# Altium schematic symbol library Schlib1.SchLib: 18 symbols
Pins are listed as number, name and electrical type; pins without a type are passive.

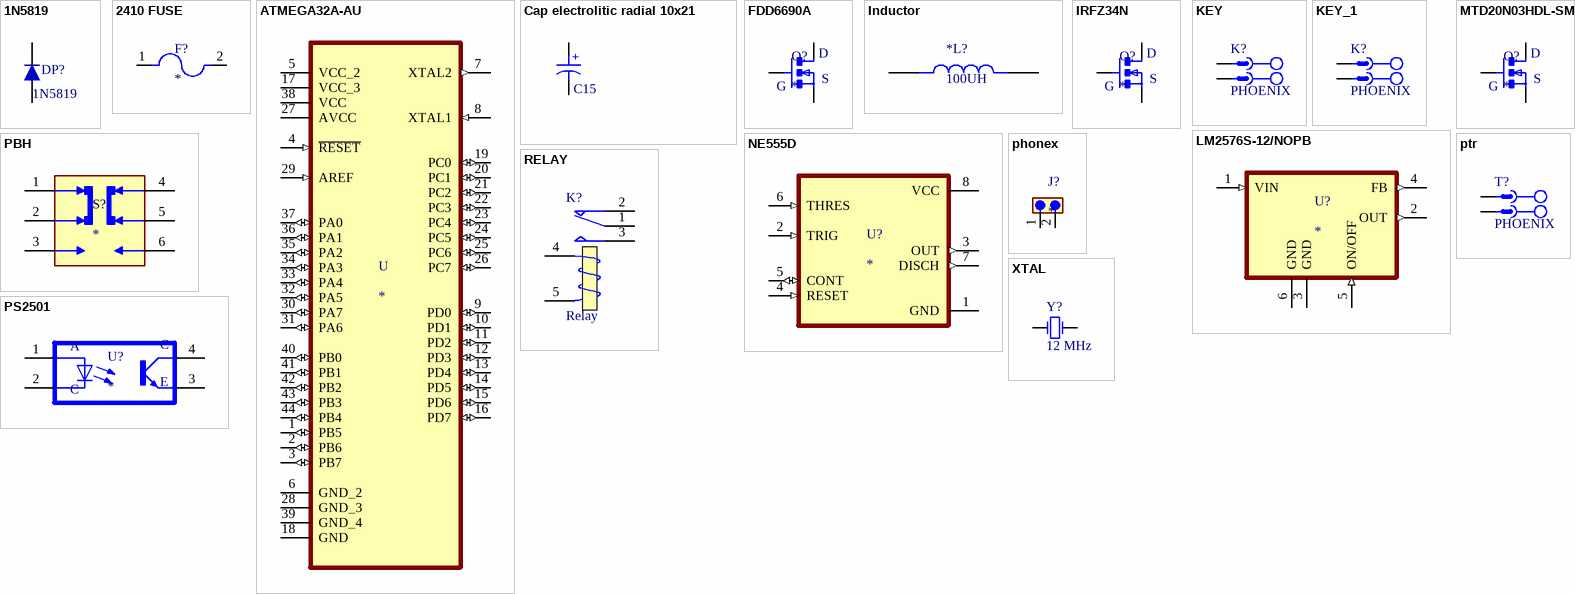
[diagram p0: symbols 1N5819 to XTAL]

## 1N5819
designator DP?
Schottkey Rectifiers; Designer: Abbas Basereh; Data: 16-12-2016; Link: *; Part. No: *
footprint 1N5819 (DP?)
pins: 1, 2

## 2410 FUSE
designator F?
2410 SMT Fuse | Quick Acting | 250mA | Higher AC Voltage; MP: 0679L4000-05; Package: None; Price: None; Value: *; Availability: Unavailable
footprint 2410 FUSE (F?)
pins: 1, 2

## ATMEGA32A-AU
designator U
AVR; MF: Microchip; MP: ATMEGA32A-AU; Value: *; Price: None; Package: TQFP-44 Microchip; SnapEDA_Link: https://www.snapeda.com/parts/ATMEGA32A-AU/Microchip/view-part/666512/?ref=snap; Availability: Unavailable
footprint ATMEGA32A-AU avr
pins: 1 PB5 (io), 2 PB6 (io), 3 PB7 (io), 4 ~{RESET} (in), 5 VCC_2 (power), 6 GND_2, 7 XTAL2 (out), 8 XTAL1 (in), 9 PD0 (io), 10 PD1 (io), 11 PD2 (io), 12 PD3 (io), 13 PD4 (io), 14 PD5 (io), 15 PD6 (io), 16 PD7 (io), 17 VCC_3 (power), 18 GND, 19 PC0 (io), 20 PC1 (io), 21 PC2 (io), 22 PC3 (io), 23 PC4 (io), 24 PC5 (io), 25 PC6 (io), 26 PC7 (io), 27 AVCC (power), 28 GND_3, 29 AREF (in), 30 PA7 (io), 31 PA6 (io), 32 PA5 (io), 33 PA4 (io), 34 PA3 (io), 35 PA2 (io), 36 PA1 (io), 37 PA0 (io), 38 VCC (power), 39 GND_4, 40 PB0 (io), 41 PB1 (io), 42 PB2 (io), 43 PB3 (io), 44 PB4 (io)

## Cap electrolitic radial 10x21
designator C15, comment Cap 10x21  (value not drawn)
Cap electrolitic radial; Part. No: 100U/50V; Designer: Abbas Basereh; Data: 16-12-2016
footprint Cap electrolitic radial 10x20-5 (Cap electrolitic radial 10x20-5-Design:Abbas Basereh)
pins: 1, 2
1 alternate drawing of the same symbol
text: +

## FDD6690A
designator Q?
N-Channel 55V 29A (Tc) 3.8W (Ta), 68W (Tc) Surface Mount D2PAK; MP: IRFZ34N; MF: Infineon / IR; Price: None; Value: *; Package: TO-220-3 Infineon / IR; SnapEDA_Link: https://www.snapeda.com/parts/IRFZ34N/Infineon/view-part/4702946/?ref=snap; Check_prices: https://www.snapeda.com/parts/IRFZ34N/Infineon/view-part/4702946/?ref=eda; Availability: Bad
footprint FDD6690A (Q?)
pins: 1 G, 2 D, 3 S

## Inductor
designator *L?, comment 100UH
footprint power inductor
pins: 1, 2

## IRFZ34N
designator Q?
N-Channel 55V 29A (Tc) 3.8W (Ta), 68W (Tc) Surface Mount D2PAK; MP: IRFZ34N; MF: Infineon / IR; Price: None; Value: *; Package: TO-220-3 Infineon / IR; SnapEDA_Link: https://www.snapeda.com/parts/IRFZ34N/Infineon/view-part/4702946/?ref=snap; Check_prices: https://www.snapeda.com/parts/IRFZ34N/Infineon/view-part/4702946/?ref=eda; Availability: Bad
footprint IRFZ34N (Q?)
pins: 1 G, 2 D, 3 S

## KEY
designator K?, comment PHOENIX
2 Pitch: 5.08 mm Color: green Contact surface: Tin Assembly; Manufacturer: PHOENIX CONTACT; Connector type: PCB Terminal Block; designer: ABBAS BASEREH; Max Current: 12 A; Positions: 2; Voltage: 320 V; Category: Connector; ComponentLink1Description: Header, Nominal current: 12 A Rated voltage (III/2): 320 V Number of positions: 2 Pitch: 5.08 mm Color: green Contact surface: Tin Assembly: Soldering  DESIGNER:ABBAS BASEREH; ComponentLink2Description: Reference; Mounting Technology: Through-Hole; Pin Count: 2; Revision 1: 2017-3-1; Status: Unreleased; PART.NO: PHOENIX
footprint KEY (K?)
pins: 1, 2

## KEY_1
designator K?, comment PHOENIX
2 Pitch: 5.08 mm Color: green Contact surface: Tin Assembly_saf; Manufacturer: PHOENIX CONTACT; Connector type: PCB Terminal Block; designer: ABBAS BASEREH; Max Current: 12 A; Positions: 2; Voltage: 320 V; Category: Connector; ComponentLink1Description: Header, Nominal current: 12 A Rated voltage (III/2): 320 V Number of positions: 2 Pitch: 5.08 mm Color: green Contact surface: Tin Assembly: Soldering  DESIGNER:ABBAS BASEREH; ComponentLink2Description: Reference; Mounting Technology: Through-Hole; Pin Count: 2; Revision 1: 2017-3-1; Status: Unreleased; PART.NO: PHOENIX
footprint 691321300002
pins: 1, 2

## LM2576S-12/NOPB
designator U?
MP: LM2576S-12; Package: None; Price: None; Availability: Unavailable; Value: *
footprint LM2576S-12/NOPB (U?)
pins: 1 VIN (in), 2 OUT (out), 3 GND (power), 4 FB (out), 5 ON/OFF (in), 6 GND (power)

## MTD20N03HDL-SMD
designator Q?
N-Channel 55V 29A (Tc) 3.8W (Ta), 68W (Tc) Surface Mount D2PAK; MP: IRFZ34N; MF: Infineon / IR; Price: None; Value: *; Package: TO-220-3 Infineon / IR; SnapEDA_Link: https://www.snapeda.com/parts/IRFZ34N/Infineon/view-part/4702946/?ref=snap; Check_prices: https://www.snapeda.com/parts/IRFZ34N/Infineon/view-part/4702946/?ref=eda; Availability: Bad
footprint MTD20N03HDL-SMD (Q?)
pins: 1 G, 2 D, 3 S

## NE555D
designator U?
MP: NE555D; Price: None; Value: *; Availability: Unavailable; Package: None
footprint NE555D (U?)
pins: 1 GND (power), 2 TRIG (in), 3 OUT (out), 4 RESET (in), 5 CONT (io), 6 THRES (in), 7 DISCH (out), 8 VCC (power)

## PBH
designator S?
Pushbutton Switch DPDT Standard Through Hole, Right Angle; MF: E-Switch; MP: PBH2UOANAGX; Availability: In Stock; Value: *; Package: None; Price: None; SnapEDA_Link: https://www.snapeda.com/parts/PBH2UOANAGX/E-Switch/view-part/?ref=snap; Purchase-URL: https://pricing.snapeda.com/search/part/PBH2UOANAGX/?ref=eda; Check_prices: https://www.snapeda.com/parts/PBH2UOANAGX/E-Switch/view-part/?ref=eda
footprint PBH (S?)
pins: 1, 2, 3, 4, 5, 6

## phonex
designator J?
2 Position Terminal Block Header, Male Pins, Shrouded (4 Side) 0.200 (5.08mm) 90Â°, Right Angle - Through Hole; MF: WÃ¼rth Elektronik; MP: 691313510002; Value: *; Availability: In Stock; SnapEDA_Link: https://www.snapeda.com/parts/691313510002/Wurth+Elektronik/view-part/?ref=snap; Check_prices: https://www.snapeda.com/parts/691313510002/Wurth+Elektronik/view-part/?ref=eda; Package: None; Purchase-URL: https://pricing.snapeda.com/search/part/691313510002/?ref=eda; Price: None
footprint phonex (J?)
pins: 1, 2

## PS2501
designator U?
MP: VO617A-9X016; Package: None; Price: None; Value: *; Availability: Unavailable
footprint PS2501 (U?)
pins: 1 A, 2 C, 3 E, 4 CO

## ptr
designator T?, comment PHOENIX
2 Pitch: 5.08 mm Color: green Contact surface: Tin Assembly; Manufacturer: PHOENIX CONTACT; Connector type: PCB Terminal Block; designer: ABBAS BASEREH; Max Current: 12 A; Positions: 2; Voltage: 320 V; Category: Connector; ComponentLink1Description: Header, Nominal current: 12 A Rated voltage (III/2): 320 V Number of positions: 2 Pitch: 5.08 mm Color: green Contact surface: Tin Assembly: Soldering  DESIGNER:ABBAS BASEREH; ComponentLink2Description: Reference; Mounting Technology: Through-Hole; Pin Count: 2; Revision 1: 2017-3-1; Status: Unreleased; PART.NO: PHOENIX
footprint ptr (T?)
pins: 1, 2

## RELAY
designator K?, comment Relay
Relay_SPDT POWER NEEDLE; Designer: Ali Hafizi; Company: E.P.I.L; Design_Date: 2011/10/31
footprint Relay (k?)
pins: 1 COM, 2 NC, 3 NO, 4 T1, 5 T2

## XTAL
designator Y?, comment 12 MHz
XTAL Crystal; Designer: ABBAS BASEREH; Design Date: 2017-1-3; ComponentLink1Description: Datasheet; ComponentLink2Description: Reference; Mounting Technology: Surface Mount\Through-Hole; Value: 12 MHz; Status: Unreleased
footprint XTAL (Y?)
pins: 1 OSC1, 2 OSC2